# EAGLE library part HM-10 (library Itead)
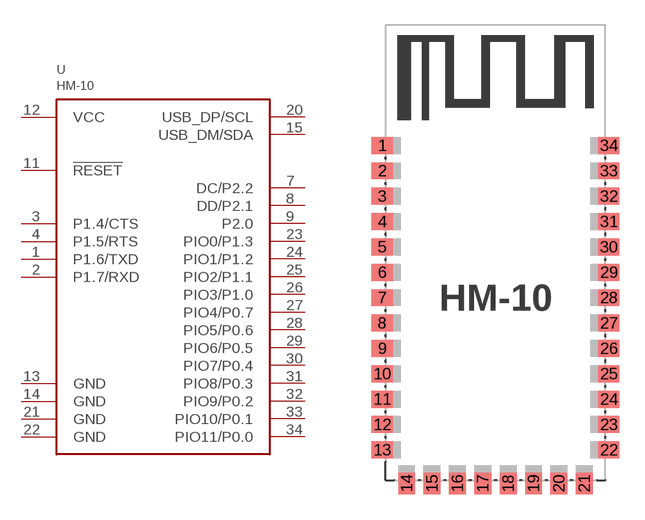
[diagram p0: symbol with the pads of HM-10; footprint HM-10]

Designator prefix U

## HM-10  [HM-10]
1  P1.6/TXD
2  P1.7/RXD
3  P1.4/CTS
4  P1.5/RTS
7  DC/P2.2
8  DD/P2.1
9  P2.0
11  !RESET
12  VCC
13  GND  pwr
14  GND  pwr
15  USB_DM/SDA
20  USB_DP/SCL
21  GND  pwr
22  GND  pwr
23  PIO0/P1.3
24  PIO1/P1.2
25  PIO2/P1.1
26  PIO3/P1.0
27  PIO4/P0.7
28  PIO5/P0.6
29  PIO6/P0.5
30  PIO7/P0.4
31  PIO8/P0.3
32  PIO9/P0.2
33  PIO10/P0.1
34  PIO11/P0.0

## Footprint HM-10 (pad centres in mm)
smd 1.25 x 1: 1 -6.7,9; 2 -6.7,7.5; 3 -6.7,6; 4 -6.7,4.5; 5 -6.7,3; 6 -6.7,1.5; 7 -6.7,0; 8 -6.7,-1.5; 9 -6.7,-3; 10 -6.7,-4.5; 11 -6.7,-6; 12 -6.7,-7.5; 13 -6.7,-9; 22 6.7,-9; 23 6.7,-7.5; 24 6.7,-6; 25 6.7,-4.5; 26 6.7,-3; 27 6.7,-1.5; 28 6.7,0; 29 6.7,1.5; 30 6.7,3; 31 6.7,4.5; 32 6.7,6; 33 6.7,7.5; 34 6.7,9
smd 1 x 1.25: 14 -5.25,-10.99; 15 -3.75,-10.99; 16 -2.25,-10.99; 17 -0.75,-10.99; 18 0.75,-10.99; 19 2.25,-10.99; 20 3.75,-10.99; 21 5.25,-10.99